# EAGLE library part MICROCHIP_MCP4261-103E-ML (library Upverter Library)
IN-DPOT-MCP4241-17
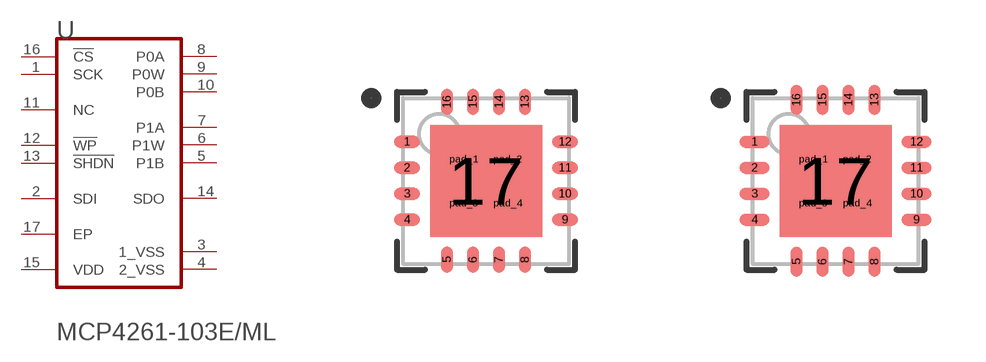
[diagram p0: symbol with the pads of MICROCHIP_MCP4261-103E-ML_0; footprints MICROCHIP_MCP4261-103E-ML_0, MICROCHIP_MCP4261-103E-ML_1]

Designator prefix U

## MICROCHIP_MCP4261-103E-MLMICROCHIP_MCP4261-103E-ML_0_0 (Code__IPC: QFN65P400X400-16V2; Code__JEDEC: MO-220; Component_Link_1_Description: Manufacturer URL; Component_Link_1_URL: http://www.microchip.com/; Component_Link_3_Description: Package Specification; Component_Link_3_URL: http://www.microchip.com/stellent/groups/techpub_sg/documents/packagingspec/en012702.pdf; Datasheet_Version: revB, Dec-2008; MF: Microchip; MPN: MCP4261-103E/ML; Package_Description: 16-Lead Plastic Quad Flat, No Lead Package (ML) - 4x4x0.9 mm Body [QFN]; Package_Version: revBB, Aug-2009; ciiva_ids: 1074765; datasheet: http://ww1.microchip.com/downloads/en/DeviceDoc/22059b.pdf; footprint_variant_name_0: Level C; footprint_variant_name_1: Level B; footprint_variant_name_2: Level A; import_ts: 1521857981; imported: yes; imported_from: vault; package: QFN-ML16; prefix: U; release_date: 1331611964; vault_guid: 3DBB41E5-F86D-4B1C-844F-E9DCE9A595A9; vault_revision: 5BB7C391-8CE6-4D5A-BDFB-4A26533C647E)  [MICROCHIP_MCP4261-103E-ML_0]
1  SCK  in
2  SDI  in
3  1_VSS  pwr
4  2_VSS  pwr
5  P1B  pas
6  P1W  pas
7  P1A  pas
8  P0A  pas
9  P0W  pas
10  P0B  pas
11  NC  pas
12  !WP!  in
13  !SHDN!  in
14  SDO  out
15  VDD  pwr
16  !CS!  in
17  EP  pas

## MICROCHIP_MCP4261-103E-MLMICROCHIP_MCP4261-103E-ML_0_1 (Code__IPC: QFN65P400X400-16V2; Code__JEDEC: MO-220; Component_Link_1_Description: Manufacturer URL; Component_Link_1_URL: http://www.microchip.com/; Component_Link_3_Description: Package Specification; Component_Link_3_URL: http://www.microchip.com/stellent/groups/techpub_sg/documents/packagingspec/en012702.pdf; Datasheet_Version: revB, Dec-2008; MF: Microchip; MPN: MCP4261-103E/ML; Package_Description: 16-Lead Plastic Quad Flat, No Lead Package (ML) - 4x4x0.9 mm Body [QFN]; Package_Version: revBB, Aug-2009; ciiva_ids: 1074765; datasheet: http://ww1.microchip.com/downloads/en/DeviceDoc/22059b.pdf; footprint_variant_name_0: Level C; footprint_variant_name_1: Level B; footprint_variant_name_2: Level A; import_ts: 1521857981; imported: yes; imported_from: vault; package: QFN-ML16; prefix: U; release_date: 1331611964; vault_guid: 3DBB41E5-F86D-4B1C-844F-E9DCE9A595A9; vault_revision: 5BB7C391-8CE6-4D5A-BDFB-4A26533C647E)  [MICROCHIP_MCP4261-103E-ML_1]
Pads as for MICROCHIP_MCP4261-103E-ML_0

## MICROCHIP_MCP4261-103E-MLMICROCHIP_MCP4261-103E-ML_0_2 (Code__IPC: QFN65P400X400-16V2; Code__JEDEC: MO-220; Component_Link_1_Description: Manufacturer URL; Component_Link_1_URL: http://www.microchip.com/; Component_Link_3_Description: Package Specification; Component_Link_3_URL: http://www.microchip.com/stellent/groups/techpub_sg/documents/packagingspec/en012702.pdf; Datasheet_Version: revB, Dec-2008; MF: Microchip; MPN: MCP4261-103E/ML; Package_Description: 16-Lead Plastic Quad Flat, No Lead Package (ML) - 4x4x0.9 mm Body [QFN]; Package_Version: revBB, Aug-2009; ciiva_ids: 1074765; datasheet: http://ww1.microchip.com/downloads/en/DeviceDoc/22059b.pdf; footprint_variant_name_0: Level C; footprint_variant_name_1: Level B; footprint_variant_name_2: Level A; import_ts: 1521857981; imported: yes; imported_from: vault; package: QFN-ML16; prefix: U; release_date: 1331611964; vault_guid: 3DBB41E5-F86D-4B1C-844F-E9DCE9A595A9; vault_revision: 5BB7C391-8CE6-4D5A-BDFB-4A26533C647E)  [MICROCHIP_MCP4261-103E-ML_2]
Pads as for MICROCHIP_MCP4261-103E-ML_0

## Footprint MICROCHIP_MCP4261-103E-ML_0 (pad centres in mm)
IN-DPOT-MCP4241-17
smd 0.65 x 0.3: 1 -1.975,0.975; 2 -1.975,0.325; 3 -1.975,-0.325; 4 -1.975,-0.975; 9 1.975,-0.975; 10 1.975,-0.325; 11 1.975,0.325; 12 1.975,0.975
smd 0.3 x 0.65: 5 -0.975,-1.975; 6 -0.325,-1.975; 7 0.325,-1.975; 8 0.975,-1.975; 13 0.975,1.975; 14 0.325,1.975; 15 -0.325,1.975; 16 -0.975,1.975
smd 2.8 x 2.8: 17 0,0
drill 0.2 pad 0.5 round: pad_1 -0.55,0.55; pad_2 0.55,0.55; pad_3 -0.55,-0.55; pad_4 0.55,-0.55

## Footprint MICROCHIP_MCP4261-103E-ML_1 (pad centres in mm)
IN-DPOT-MCP4241-17
smd 0.75 x 0.3: 1 -2.025,0.975; 2 -2.025,0.325; 3 -2.025,-0.325; 4 -2.025,-0.975; 9 2.025,-0.975; 10 2.025,-0.325; 11 2.025,0.325; 12 2.025,0.975
smd 0.3 x 0.75: 5 -0.975,-2.025; 6 -0.325,-2.025; 7 0.325,-2.025; 8 0.975,-2.025; 13 0.975,2.025; 14 0.325,2.025; 15 -0.325,2.025; 16 -0.975,2.025
smd 2.8 x 2.8: 17 0,0
drill 0.2 pad 0.5 round: pad_1 -0.55,0.55; pad_2 0.55,0.55; pad_3 -0.55,-0.55; pad_4 0.55,-0.55

## Footprint MICROCHIP_MCP4261-103E-ML_2 (pad centres in mm)
IN-DPOT-MCP4241-17
smd 0.85 x 0.3: 1 -2.075,0.975; 2 -2.075,0.325; 3 -2.075,-0.325; 4 -2.075,-0.975; 9 2.075,-0.975; 10 2.075,-0.325; 11 2.075,0.325; 12 2.075,0.975
smd 0.3 x 0.85: 5 -0.975,-2.075; 6 -0.325,-2.075; 7 0.325,-2.075; 8 0.975,-2.075; 13 0.975,2.075; 14 0.325,2.075; 15 -0.325,2.075; 16 -0.975,2.075
smd 2.8 x 2.8: 17 0,0
drill 0.2 pad 0.5 round: pad_1 -0.55,0.55; pad_2 0.55,0.55; pad_3 -0.55,-0.55; pad_4 0.55,-0.55